# EAGLE library part E-SWITCH (library E-Switch_v1)
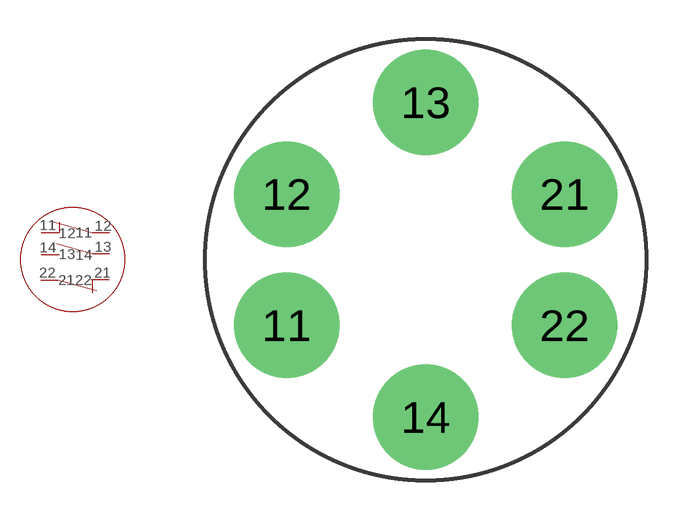
[diagram p0: symbol with the pads of E-SWITCH; footprint E-SWITCH]

Designator prefix -

## E-SWITCH  [E-SWITCH]
11  11
12  12
13  13
14  14
21  21
22  22

## Footprint E-SWITCH (pad centres in mm)
drill 3: 11 -5.3,-2.5; 12 -5.3,2.5; 13 0,6; 14 0,-6; 21 5.3,2.5; 22 5.3,-2.5